# EAGLE library part SIMM64 (library con-amp1)
AMP connector
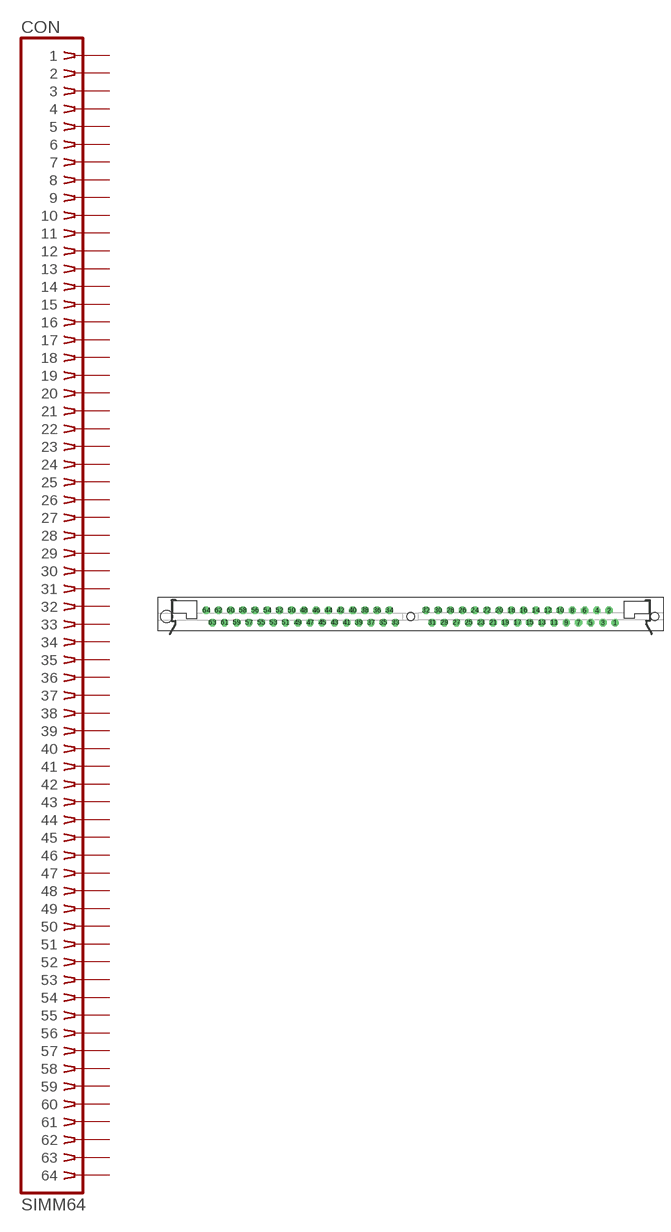
[diagram p11: symbol with the pads of 822032-2; footprint 822032-2]

Designator prefix CON

## SIMM64  [822032-2]
1  1  pas
2  2  pas
3  3  pas
4  4  pas
5  5  pas
6  6  pas
7  7  pas
8  8  pas
9  9  pas
10  10  pas
11  11  pas
12  12  pas
13  13  pas
14  14  pas
15  15  pas
16  16  pas
17  17  pas
18  18  pas
19  19  pas
20  20  pas
21  21  pas
22  22  pas
23  23  pas
24  24  pas
25  25  pas
26  26  pas
27  27  pas
28  28  pas
29  29  pas
30  30  pas
31  31  pas
32  32  pas
33  33  pas
34  34  pas
35  35  pas
36  36  pas
37  37  pas
38  38  pas
39  39  pas
40  40  pas
41  41  pas
42  42  pas
43  43  pas
44  44  pas
45  45  pas
46  46  pas
47  47  pas
48  48  pas
49  49  pas
50  50  pas
51  51  pas
52  52  pas
53  53  pas
54  54  pas
55  55  pas
56  56  pas
57  57  pas
58  58  pas
59  59  pas
60  60  pas
61  61  pas
62  62  pas
63  63  pas
64  64  pas

## Footprint 822032-2 (pad centres in mm)
SIMM Socket
drill 1.016 round: 1 42.545,-1.27
drill 1.016 octagon: 2 41.275,1.27; 3 40.005,-1.27; 4 38.735,1.27; 5 37.465,-1.27; 6 36.195,1.27; 7 34.925,-1.27; 8 33.655,1.27; 9 32.385,-1.27; 10 31.115,1.27; 11 29.845,-1.27; 12 28.575,1.27; 13 27.305,-1.27; 14 26.035,1.27; 15 24.765,-1.27; 16 23.495,1.27; 17 22.225,-1.27; 18 20.955,1.27; 19 19.685,-1.27; 20 18.415,1.27; 21 17.145,-1.27; 22 15.875,1.27; 23 14.605,-1.27; 24 13.335,1.27; 25 12.065,-1.27; 26 10.795,1.27; 27 9.525,-1.27; 28 8.255,1.27; 29 6.985,-1.27; 30 5.715,1.27; 31 4.445,-1.27; 32 3.175,1.27; 33 -3.175,-1.27; 34 -4.445,1.27; 35 -5.715,-1.27; 36 -6.985,1.27; 37 -8.255,-1.27; 38 -9.525,1.27; 39 -10.795,-1.27; 40 -12.065,1.27; 41 -13.335,-1.27; 42 -14.605,1.27; 43 -15.875,-1.27; 44 -17.145,1.27; 45 -18.415,-1.27; 46 -19.685,1.27; 47 -20.955,-1.27; 48 -22.225,1.27; 49 -23.495,-1.27; 50 -24.765,1.27; 51 -26.035,-1.27; 52 -27.305,1.27; 53 -28.575,-1.27; 54 -29.845,1.27; 55 -31.115,-1.27; 56 -32.385,1.27; 57 -33.655,-1.27; 58 -34.925,1.27; 59 -36.195,-1.27; 60 -37.465,1.27; 61 -38.735,-1.27; 62 -40.005,1.27; 63 -41.275,-1.27; 64 -42.545,1.27
hole 2.438 at -50.8,0
hole 1.626 at 50.8,0
hole 1.626 at 0,0